# Altium footprint library PCBLibPutallaz.PcbLib: 49 footprints (part 3 of 4)
Each footprint in its own frame and in the unit in brackets; x right, y up, seen from the top. Pads: shape width x height; smd on the part's side, far side on the other; paste and mask are expansions set on the pad; w line width, h text height; cw(c..) or ccw(c..) is an arc to the next point about the centre after c.
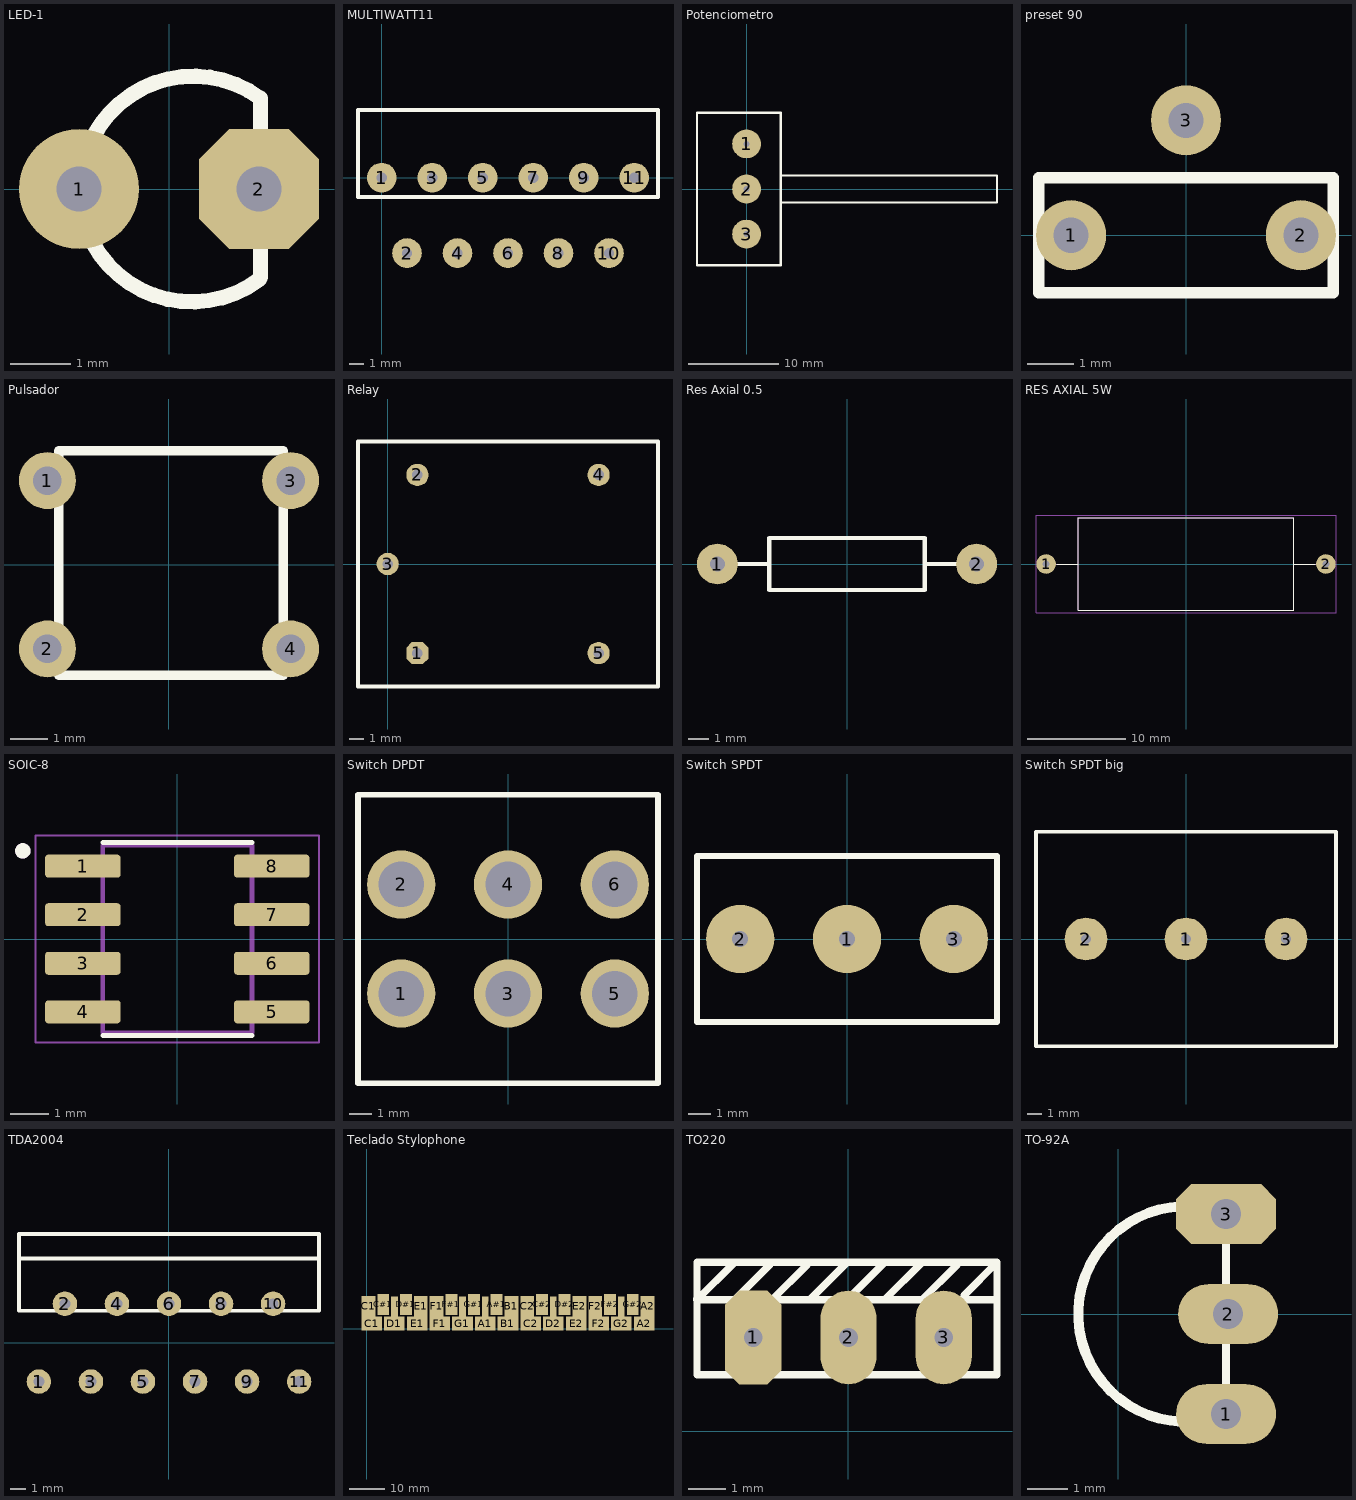
[diagram p2: the footprints below, top view; thin cyan lines are the x and y axes]

## LED-1 [mm] "LED; 2 Leads"
pads (2):
  round 2 hole 0.75: 1(-1.5,0)
  oct 2x2 hole 0.75: 2(1.5,0)
Top Overlay:
  lines w0.254: -1.5,0 ccw(c0.381,0) 1.508,-1.506 ; -1.476,0 cw(c0.405,0) 1.524,1.512 ; 1.524,-1.473 1.524,1.48

## MULTIWATT11 [mm]
pads (11):
  round 2 hole 0.7: 1(0,0) 2(1.7,-5.08) 3(3.4,0) 4(5.1,-5.08) 5(6.8,0) 6(8.5,-5.08) 7(10.2,0) 8(11.9,-5.08) 9(13.6,0) 10(15.3,-5.08) 11(17,0)
Top Overlay:
  lines w0.254: -1.6,-1.3 -1.6,1.35 -1.6,4.55 18.6,4.55 18.6,1.35 18.6,-1.3 -1.6,-1.3

## Potenciometro [mm]
pads (3):
  round 3.2 hole 0.7: 1(0,5) 2(0,0) 3(0,-5)
Top Overlay:
  lines w0.254: 3.8,-1.5 27.8,-1.5 27.8,1.5 3.8,1.5 ; -5.5,-8.45 3.8,-8.45 3.8,8.45 -5.5,8.45 -5.5,-8.45

## preset 90 [mil]
pads (3):
  round 60 hole 30: 1(-98.43,0) 2(98.43,0) 3(0,98.43)
Top Overlay:
  lines w10: -125.98,-49.21 -125.98,49.21 125.98,49.21 125.98,-49.21 -125.98,-49.21

## Pulsador [mil]
pads (4):
  round 60 hole 30: 1(-127.95,88.58) 2(-127.95,-88.58) 3(127.95,88.58) 4(127.95,-88.58)
Top Overlay:
  lines w10: -116.14,-116.14 -116.14,120.08 120.08,120.08 120.08,-116.14 -116.14,-116.14

## Relay [mm]
pads (5):
  oct 1.5x1.5 hole 0.7: 1(2,-6)
  round 1.5 hole 0.7: 2(2,6) 3(0,0) 4(14.2,6) 5(14.2,-6)
Top Overlay:
  lines w0.254: -2,-8.25 -2,8.25 18.2,8.25 18.2,-8.25 -2,-8.25
3D body "relay.STEP": height 16, standoff -3.9, extent -2.25,-8 19.75,8

## Res Axial 0.5 [mm] "Axial Device, Thru-Hole; 2 Leads; 0.5 in Pin Spacing"
height 2.54
pads (2):
  round 2 hole 0.75: 1(-6.35,0) 2(6.35,0)
Top Overlay:
  lines w0.2: -5.334,0 -3.81,0 ; 3.81,0 5.334,0 ; -3.81,-1.27 -3.81,1.27 3.81,1.27 3.81,-1.27 -3.81,-1.27
3D body "MFR-25FTE52-1R--3DModel-STEP-269445.STEP": height 2.59, standoff -23.7, extent -5.1,-1.25 5,1.35

## RES AXIAL 5W [mm]
height 10
pads (2):
  round 2 hole 0.7: 1(-14.3,0) 2(14.3,0)
Top Overlay:
  lines w0.127: -13.193,0 -11,0 ; 13.193,0 11,0 ; -11,0 -11,-4.75 11,-4.75 11,0 ; -11,0 -11,4.75 11,4.75 11,0
Mechanical 13:
  lines w0.127: -14.3,0 -11,0 ; 14.3,0 11,0 ; -11,0 -11,-4.75 11,-4.75 11,0 ; -11,0 -11,4.75 11,4.75 11,0
Mechanical 15:
  lines w0.05: -15.338,-5 -15.338,5 15.338,5 15.338,-5 -15.338,-5
3D body "5wresistor.STEP": height 9, standoff -23.5, extent -13.927,-4.674 13.673,4.826

## SOIC-8 [mm]
pads (8):
  rrect25% 1.97x0.6 smd: 1(-2.47,1.905) 2(-2.47,0.635) 3(-2.47,-0.635) 4(-2.47,-1.905) 5(2.47,-1.905) 6(2.47,-0.635) 7(2.47,0.635) 8(2.47,1.905)
Top Overlay:
  circle w0.2: c-4.04,2.305 r0.1
  lines w0.127: -1.95,-2.525 1.95,-2.525 ; -1.95,2.525 1.95,2.525
Mechanical 13:
  circle w0.2: c-4.04,2.305 r0.1
  lines w0.127: -1.95,-2.452 1.95,-2.452 1.95,2.452 -1.95,2.452 -1.95,-2.452
Mechanical 15:
  lines w0.05: -3.705,-2.702 3.705,-2.702 3.705,2.702 -3.705,2.702 -3.705,-2.702
3D body "step_temp.STEP": height 1.75, standoff 0, extent -3,-2.45 3,2.45

## Switch DPDT [mm]
pads (6):
  round 3 hole 2: 1(-4.7,-2.4) 2(-4.7,2.4) 3(0,-2.4) 4(0,2.4) 5(4.7,-2.4) 6(4.7,2.4)
Top Overlay:
  lines w0.254: -6.6,-6.35 6.6,-6.35 6.6,6.35 -6.6,6.35 -6.6,-6.35

## Switch SPDT [mm]
pads (3):
  round 3 hole 0.7: 1(0,0) 2(-4.7,0) 3(4.7,0)
Top Overlay:
  lines w0.254: -6.6,-3.65 -6.6,3.65 6.6,3.65 6.6,-3.65 -6.6,-3.65

## Switch SPDT big [mm]
pads (3):
  round 3 hole 0.7: 1(0,0) 2(-7,0) 3(7,0)
Top Overlay:
  lines w0.254: -10.5,-7.5 -10.5,7.5 10.5,7.5 10.5,-7.5 -10.5,-7.5

## TDA2004 [mm]
pads (11):
  round 1.6 hole 0.7: 1(-8.5,-2.54) 2(-6.8,2.54) 3(-5.1,-2.54) 4(-3.4,2.54) 5(-1.7,-2.54) 6(0,2.54) 7(1.7,-2.54) 8(3.4,2.54) 9(5.1,-2.54) 10(6.8,2.54) 11(8.5,-2.54)
Top Overlay:
  lines w0.254: -9.8,5.49 9.8,5.49 ; -9.8,2.09 -9.8,7.09 9.8,7.09 9.8,2.09 -9.8,2.09

## Teclado Stylophone [mm]
pads (35):
  rect 5.9x4 smd: A1(33.959,1.5) A2(79.5,1.5) B1(40.5,1.5) C1(1.5,1.5) C2(47,1.5) D1(7.959,1.5) D2(53.459,1.5) E1(14.5,1.5) E2(60,1.5) F1(21,1.5) F2(66.5,1.5) G1(27.459,1.5) G2(72.959,1.5)
  rect 1.96x6 smd: A1(33.959,6.338) D1(7.959,6.338) D2(53.459,6.338) G1(27.459,6.338) G2(72.959,6.338)
  rect 3.93x6 smd: A2(80.485,6.429) B1(41.485,6.429) C1(0.515,6.429) C2(46.015,6.429) E1(15.485,6.429) E2(60.985,6.429) F1(20.015,6.429) F2(65.515,6.429)
  rect 3.43x6 smd: A#1(37.25,7) C#1(4.75,7) C#2(50.25,7) D#1(11.25,7) D#2(56.75,7) F#1(24.25,7) F#2(69.75,7) G#1(30.75,7) G#2(76.25,7)

## TO220 [mm] "Encapsulado TO220"
pads (3):
  oct 1.5x2.5 hole 0.5: 1(-2.54,2.5)
  oval 1.5x2.5 hole 0.5: 2(0,2.5) 3(2.54,2.5)
Top Overlay:
  lines w0.2: -4.015,3.5 -3.54,3.5 -1.484,3.5 3.96,3.5 ; -4.015,3.525 -3.09,4.45 ; -2.99,3.55 -2.103,4.438 ; -2.04,3.5 -1.115,4.425 ; -0.99,3.55 -0.09,4.45 ; 0.01,3.55 0.91,4.45 ; 0.985,3.525 1.935,4.475 ; 1.96,3.5 2.885,4.425 ; 3.085,3.625 3.96,4.5 ; 3.96,3.5 3.96,4.5 ; 3.96,3.5 3.96,1.5 -4.04,1.5 -4.04,3.5 -4.04,4.5 3.96,4.5
  lines w0.254: -4.015,3.5 -4.015,3.525
Drill Guide:
  lines w0.254: -0.79,3.3 -0.79,3.775 ; -0.79,4.25 -0.79,4.75 ; -0.04,3.1 -0.04,5 ; 0.71,3.275 0.71,3.75 ; 0.71,4.225 0.71,4.75
3D body "BTA16-600B.STEP": height 19.65, standoff -10.25, extent -5.1,1 5.1,5.5

## TO-92A [mm] "TO, Flat Index; 3 In-Line, Axial Leads; Body Dia. 4.5mm; Leads 0.51 x 0.48 mm (max)"
height 6.86
pads (3):
  oval 2.5x1.5 hole 0.75: 1(2.7,-2.5) 2(2.75,0)
  oct 2.5x1.5 hole 0.75: 3(2.7,2.5)
Top Overlay:
  lines w0.2: 2.7,-2.5 2.7,2.5
  lines w0.254: 2.7,-2.5 cw(c1.695,0) 2.7,2.5
3D body "BC547B.STEP": height 8.09, standoff -9.01, extent 0.4,-2.75 4,2.73